# EAGLE library part 691309410003 (library Wurth_Elektronik_Electromechanic_Terminal_Blocks_Connectors_rev15c)
WR - TBL Serie 3094 - 7.62mm Reversed Gender Horizontal PCB Header , 3 pins=>Code : Con_TBL_Pluggable_7.62_PCB_H_691309410003 <http://katalog.we-online.de/media/images/eican/Con_TBL_Pluggable_7.62_PCB_H_6913094100xx_pf2.jpg> Details see: http://katalog.we-online.de/en/em/691_309_410_0xx Created 2014-06-25, Karrer Zheng 2014 (C) Würth Elektronik
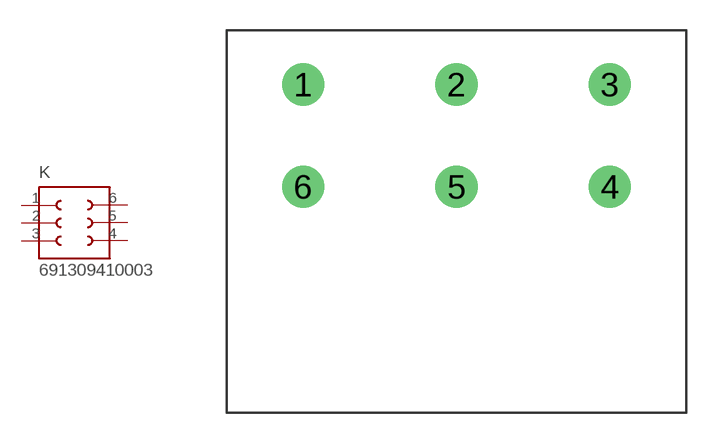
[diagram p200: symbol with the pads of 691309410003; footprint 691309410003]

Designator prefix K

## 691309410003  [691309410003]
1  1  pas
2  2  pas
3  3  pas
4  4  pas
5  5  pas
6  6  pas

## Footprint 691309410003 (pad centres in mm)
WR - TBL Serie 3094 - 7.62mm Reversed Gender Horizontal PCB Header , 3 pins
drill 1.4: 1 -15.24,0; 2 -7.62,0; 3 0,0; 4 0,-5.08; 5 -7.62,-5.08; 6 -15.24,-5.08